# EAGLE library part AT24C256 (library awqua_eagle_library)
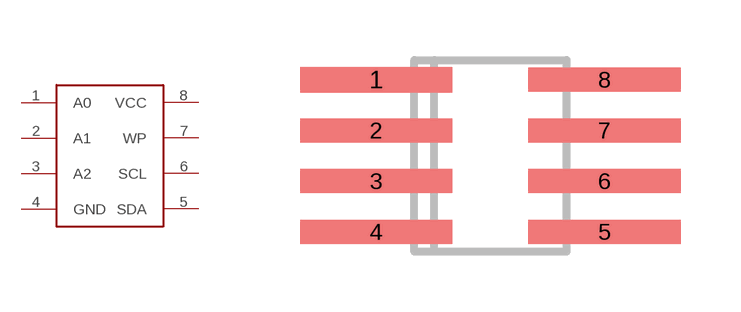
[diagram p7: symbol with the pads of SOIC8-LONGPAD; footprint SOIC8-LONGPAD]

Designator prefix -

## AT24C256  [SOIC8-LONGPAD]
1  A0
2  A1
3  A2
4  GND
5  SDA
6  SCL
7  WP
8  VCC

## Footprint SOIC8-LONGPAD (pad centres in mm)
Small Outline IC
smd 3.81 x 0.635: 1 -0.314,5.715
smd 3.81 x 0.6: 2 -0.314,4.445; 3 -0.314,3.175; 4 -0.314,1.905; 5 5.394,1.905; 6 5.394,3.175; 7 5.394,4.445; 8 5.394,5.715